# Altium schematic symbol library Q_NFET_DUAL_8PIN.Schlib: 1 symbol
Pins are listed as number, name and electrical type; pins without a type are passive.

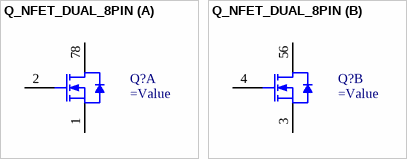
[diagram p0: symbol Q_NFET_DUAL_8PIN]

## Q_NFET_DUAL_8PIN
designator Q?
NFET, 8-Pin Package
part A pins: 1 SOURCE1, 2 GATE1, 7 DRAIN1, 8 DRAIN1
part B pins: 3 SOURCE2, 4 GATE2, 5 DRAIN2, 6 DRAIN2